# Altium footprint library WE-SPXO.PcbLib: 21 footprints (part 2 of 2)
Each footprint in its own frame and in the unit in brackets; x right, y up, seen from the top. Pads: shape width x height; smd on the part's side, far side on the other; paste and mask are expansions set on the pad; w line width, h text height; cw(c..) or ccw(c..) is an arc to the next point about the centre after c.
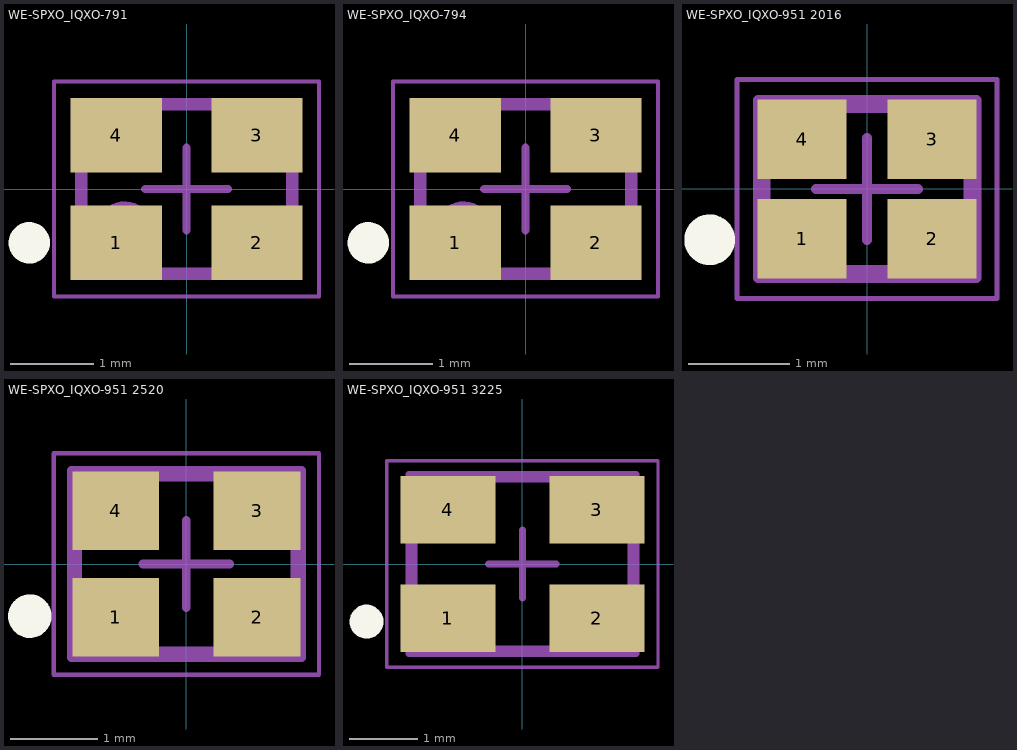
[diagram p1: the footprints below, top view; thin cyan lines are the x and y axes]

## WE-SPXO_IQXO-791 [mm] "Simple Packaged Quartz Oscillator, body 2.5x2mm"
height 1
pads (4):
  rect 1.1x0.9 smd: 1(-0.85,-0.65) 2(0.85,-0.65) 3(0.85,0.65) 4(-0.85,0.65)
Top Overlay:
  circle w0.25: c-1.9,-0.65 r0.125
Top Assembly:
  circle w0.1: c-0.8,-0.55 r0.3
  lines w0.1: -1.3,-1.05 1.3,-1.05 1.3,1.05 -1.3,1.05 -1.3,-1.05
Top Designator:
  text ".Designator" at -3.647,-0.357 h1
Top 3D Body:
  circle w0.1: c-0.75,-0.5 r0.3
  lines w0.1: -1.25,-1 -1.25,1 1.25,1 1.25,-1 -1.25,-1
Top Courtyard:
  lines w0.05: -1.6,-1.3 -1.6,1.3 1.6,1.3 1.6,-1.3 -1.6,-1.3
Top Component Center:
  lines w0.1: -0.5,0 0.5,0 ; 0,-0.5 0,0.5
3D body "IQXO-791.stp": height 1, standoff 0, extent -1.25,-1 1.25,1

## WE-SPXO_IQXO-794 [mm] "Simple Packaged Quartz Oscillator, body 2.5x2mm"
height 1
pads (4):
  rect 1.1x0.9 smd: 1(-0.85,-0.65) 2(0.85,-0.65) 3(0.85,0.65) 4(-0.85,0.65)
Top Overlay:
  circle w0.25: c-1.9,-0.65 r0.125
Top Assembly:
  circle w0.1: c-0.8,-0.55 r0.3
  lines w0.1: -1.3,-1.05 1.3,-1.05 1.3,1.05 -1.3,1.05 -1.3,-1.05
Top Designator:
  text ".Designator" at -3.647,-0.357 h1
Top 3D Body:
  circle w0.1: c-0.75,-0.5 r0.3
  lines w0.1: -1.25,-1 -1.25,1 1.25,1 1.25,-1 -1.25,-1
Top Courtyard:
  lines w0.05: -1.6,-1.3 -1.6,1.3 1.6,1.3 1.6,-1.3 -1.6,-1.3
Top Component Center:
  lines w0.1: -0.5,0 0.5,0 ; 0,-0.5 0,0.5
3D body "IQXO-794.stp": height 0.95, standoff 0, extent -1.25,-1 1.25,1

## WE-SPXO_IQXO-951 2016 [mm] "Simple Packaged Quartz Oscillator, body 2x1.6mm"
height 0.8
pads (4):
  rect 0.88x0.78 smd: 1(-0.64,-0.49) 2(0.64,-0.49) 3(0.64,0.49) 4(-0.64,0.49)
Top Overlay:
  circle w0.25: c-1.55,-0.5 r0.125
Top Assembly:
  circle w0.1: c-0.675,-0.475 r0.2
  lines w0.1: -1.075,-0.875 1.075,-0.875 1.075,0.875 -1.075,0.875 -1.075,-0.875
Top Designator:
  text ".Designator" at -3.647,-0.357 h1
Top 3D Body:
  circle w0.1: c-0.6,-0.4 r0.2
  lines w0.1: -1,-0.8 1,-0.8 1,0.8 -1,0.8 -1,-0.8
Top Courtyard:
  lines w0.05: -1.28,-1.08 -1.28,1.08 1.28,1.08 1.28,-1.08 -1.28,-1.08
Top Component Center:
  lines w0.1: -0.5,0 0.5,0 ; 0,-0.5 0,0.5
3D body "IQXO-951 2016.stp": height 0.7, standoff 0, extent -1,-0.8 1,0.8

## WE-SPXO_IQXO-951 2520 [mm] "Simple Packaged Quartz Oscillator, body 2.5x2mm"
height 0.95
pads (4):
  rect 1x0.9 smd: 1(-0.813,-0.613) 2(0.813,-0.613) 3(0.813,0.613) 4(-0.813,0.613)
Top Overlay:
  circle w0.25: c-1.8,-0.6 r0.125
Top Assembly:
  circle w0.1: c-0.925,-0.675 r0.2
  lines w0.1: -1.325,-1.075 -1.325,1.075 1.325,1.075 1.325,-1.075 -1.325,-1.075
Top Designator:
  text ".Designator" at -3.647,-0.357 h1
Top 3D Body:
  circle w0.1: c-0.85,-0.6 r0.2
  lines w0.1: -1.25,-1 -1.25,1 1.25,1 1.25,-1 -1.25,-1
Top Courtyard:
  lines w0.05: -1.525,-1.275 1.525,-1.275 1.525,1.275 -1.525,1.275 -1.525,-1.275
Top Component Center:
  lines w0.1: -0.5,0 0.5,0 ; 0,-0.5 0,0.5
3D body "IQXO-951 2520.stp": height 0.85, standoff 0, extent -1.25,-1 1.25,1

## WE-SPXO_IQXO-951 3225 [mm] "Simple Packaged Quartz Oscillator, body 3.2x2.5mm"
height 1.2
pads (4):
  rect 1.4x1 smd: 1(-1.1,-0.8) 2(1.1,-0.8) 3(1.1,0.8) 4(-1.1,0.8)
Top Overlay:
  circle w0.25: c-2.3,-0.85 r0.125
Top Assembly:
  circle w0.1: c-1.175,-0.825 r0.3
  lines w0.1: -1.675,-1.325 1.675,-1.325 1.675,1.325 -1.675,1.325 -1.675,-1.325
Top Designator:
  text ".Designator" at -3.647,-0.357 h1
Top 3D Body:
  circle w0.1: c-1.1,-0.75 r0.3
  lines w0.1: -1.6,-1.25 1.6,-1.25 1.6,1.25 -1.6,1.25 -1.6,-1.25
Top Courtyard:
  lines w0.05: -2,-1.525 -2,1.525 2,1.525 2,-1.525 -2,-1.525
Top Component Center:
  lines w0.1: -0.5,0 0.5,0 ; 0,-0.5 0,0.5
3D body "IQXO-951 3225.stp": height 1.2, standoff 0, extent -1.6,-1.25 1.6,1.25